# Altium schematic symbol library Inductor.Schlib: 1 symbol
Pins are listed as number, name and electrical type; pins without a type are passive.

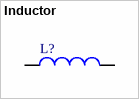
[diagram p0: symbol Inductor]

## Inductor
designator L?  (value not drawn)
pins: 1, 2